# EAGLE library part JUMPER_2X3 (library connectors)
JUMPER
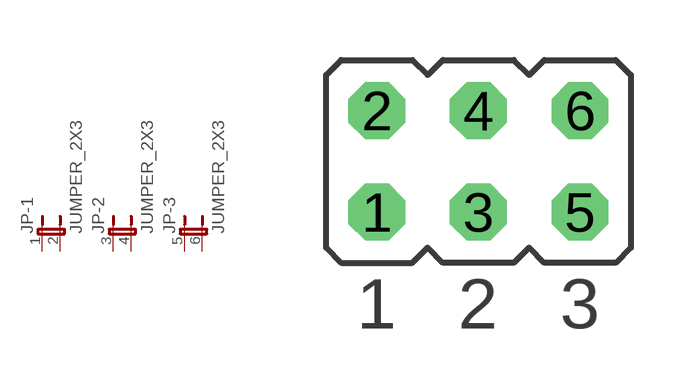
[diagram p8: symbol with the pads of JUMPER_2X3; footprint JUMPER_2X3]

Designator prefix JP; gates -1=JP2E -2=JP2E -3=JP2E

## JUMPER_2X3  [JUMPER_2X3]
1  -1:1  pas
2  -1:2  pas
3  -2:1  pas
4  -2:2  pas
5  -3:1  pas
6  -3:2  pas

## Footprint JUMPER_2X3 (pad centres in mm)
JUMPER
drill 0.914 octagon: 1 -2.54,-1.27; 2 -2.54,1.27; 3 0,-1.27; 4 0,1.27; 5 2.54,-1.27; 6 2.54,1.27